# Altium footprint library ADS7038IRTER.PcbLib: 3 footprints
Each footprint in its own frame and in the unit in brackets; x right, y up, seen from the top. Pads: shape width x height; smd on the part's side, far side on the other; paste and mask are expansions set on the pad; w line width, h text height; cw(c..) or ccw(c..) is an arc to the next point about the centre after c.
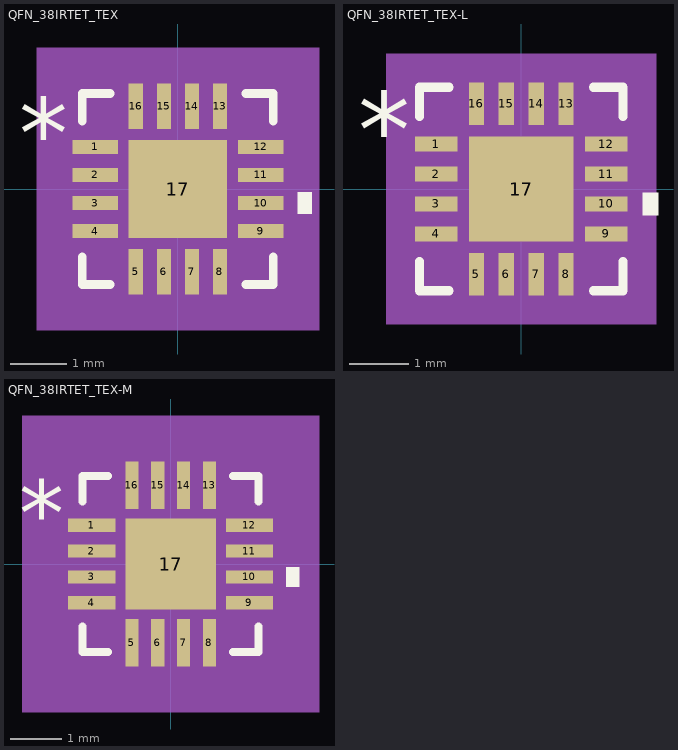
[diagram p0: the footprints below, top view; thin cyan lines are the x and y axes]

## QFN_38IRTET_TEX [mil]
pads (17):
  rect 32x10 smd paste+0 mask+0: 1(-58,29.54) 2(-58,9.85) 3(-58,-9.85) 4(-58,-29.54) 9(58,-29.54) 10(58,-9.85) 11(58,9.85) 12(58,29.54)
  rect 10x32 smd paste+0 mask+0: 5(-29.54,-58) 6(-9.85,-58) 7(9.85,-58) 8(29.54,-58) 13(29.54,58) 14(9.85,58) 15(-9.85,58) 16(-29.54,58)
  rect 69x69 smd paste+0 mask+0: 17(0,0)
Top Overlay:
  region: 84,-2.35 94,-2.35 94,-17.34 84,-17.34
  lines w6: -67,-47.63 -67,-67 -47.63,-67 ; -67,47.63 -67,67 -47.63,67 ; 47.63,-67 67,-67 67,-47.63 ; 47.63,67 67,67 67,47.63
  text "*" at -111.5,14.38 h50
Mechanical 5:
  region: 99,-99 -99,-99 -99,99 99,99
Mechanical 13:
  lines w1: -62,12 -12,62 ; -62,-62 -62,62 62,62 62,-62 -62,-62 ; -62,-35.53 -62,-23.54 -62,-35.53 ; -62,-15.85 -62,-3.85 -62,-15.85 ; -62,3.85 -62,15.85 -62,3.85 ; -62,23.54 -62,35.53 -62,23.54 ; -35.53,-62 -23.54,-62 -35.53,-62 ; -35.53,62 -23.54,62 -35.53,62 ; -15.85,-62 -3.85,-62 -15.85,-62 ; -15.85,62 -3.85,62 -15.85,62 ; 3.85,-62 15.85,-62 3.85,-62 ; 3.85,62 15.85,62 3.85,62 ; 23.54,-62 35.53,-62 23.54,-62 ; 23.54,62 35.53,62 23.54,62 ; 62,-35.53 62,-23.54 62,-35.53 ; 62,-15.85 62,-3.85 62,-15.85 ; 62,3.85 62,15.85 62,3.85 ; 62,23.54 62,35.53 62,23.54
  text "*" at -54.5,14.38 h50
Mechanical 15:
  region: -44.53,-72 -72,-72 -72,-44.53 -84,-44.53 -84,44.53 -72,44.53 -72,72 -44.53,72 -44.53,84 44.53,84 44.53,72 72,72 72,44.53 84,44.53 84,-44.53 72,-44.53 72,-72 44.53,-72 44.53,-84 -44.53,-84
  lines w6: -84,-44.53 -84,44.53 -72,44.53 -72,72 -44.53,72 -44.53,84 44.53,84 44.53,72 72,72 72,44.53 84,44.53 84,-44.53 72,-44.53 72,-72 44.53,-72 44.53,-84 -44.53,-84 -44.53,-72 -72,-72 -72,-44.53 -84,-44.53
3D body "QFN_38IRTET_TEX.step": height 32.09, standoff 0, extent -62.01,-62.01 62.01,62.01

## QFN_38IRTET_TEX-L [mil]
pads (17):
  rect 28x10 smd paste+0 mask+0: 1(-56,29.54) 2(-56,9.85) 3(-56,-9.85) 4(-56,-29.54) 9(56,-29.54) 10(56,-9.85) 11(56,9.85) 12(56,29.54)
  rect 10x28 smd paste+0 mask+0: 5(-29.54,-56) 6(-9.85,-56) 7(9.85,-56) 8(29.54,-56) 13(29.54,56) 14(9.85,56) 15(-9.85,56) 16(-29.54,56)
  rect 69x69 smd paste+0 mask+0: 17(0,0)
Top Overlay:
  region: 80,-2.35 90,-2.35 90,-17.34 80,-17.34
  lines w6: -67,-47.63 -67,-67 -47.63,-67 ; -67,47.63 -67,67 -47.63,67 ; 47.63,-67 67,-67 67,-47.63 ; 47.63,67 67,67 67,47.63
  text "*" at -107.5,14.38 h50
Mechanical 5:
  region: 89,-89 -89,-89 -89,89 89,89
Mechanical 13:
  lines w1: -62,12 -12,62 ; -62,-62 62,-62 62,62 -62,62 -62,-62 ; -62,-35.53 -62,-23.54 -62,-35.53 ; -62,-15.85 -62,-3.85 -62,-15.85 ; -62,3.85 -62,15.85 -62,3.85 ; -62,23.54 -62,35.53 -62,23.54 ; -35.53,-62 -23.54,-62 -35.53,-62 ; -35.53,62 -23.54,62 -35.53,62 ; -15.85,-62 -3.85,-62 -15.85,-62 ; -15.85,62 -3.85,62 -15.85,62 ; 3.85,-62 15.85,-62 3.85,-62 ; 3.85,62 15.85,62 3.85,62 ; 23.54,-62 35.53,-62 23.54,-62 ; 23.54,62 35.53,62 23.54,62 ; 62,-35.53 62,-23.54 62,-35.53 ; 62,-15.85 62,-3.85 62,-15.85 ; 62,3.85 62,15.85 62,3.85 ; 62,23.54 62,35.53 62,23.54
  text "*" at -54.5,14.38 h50
Mechanical 15:
  region: -38.53,-66 -66,-66 -66,-38.53 -74,-38.53 -74,38.53 -66,38.53 -66,66 -38.53,66 -38.53,74 38.53,74 38.53,66 66,66 66,38.53 74,38.53 74,-38.53 66,-38.53 66,-66 38.53,-66 38.53,-74 -38.53,-74
  lines w6: -74,-38.53 -66,-38.53 -66,-66 -38.53,-66 -38.53,-74 38.53,-74 38.53,-66 66,-66 66,-38.53 74,-38.53 74,38.53 66,38.53 66,66 38.53,66 38.53,74 -38.53,74 -38.53,66 -66,66 -66,38.53 -74,38.53 -74,-38.53
3D body "QFN_38IRTET_TEX.step": height 32.09, standoff 0, extent -62.01,-62.01 62.01,62.01

## QFN_38IRTET_TEX-M [mil]
pads (17):
  rect 36x10 smd paste+0 mask+0: 1(-60,29.54) 2(-60,9.85) 3(-60,-9.85) 4(-60,-29.54) 9(60,-29.54) 10(60,-9.85) 11(60,9.85) 12(60,29.54)
  rect 10x36 smd paste+0 mask+0: 5(-29.54,-60) 6(-9.85,-60) 7(9.85,-60) 8(29.54,-60) 13(29.54,60) 14(9.85,60) 15(-9.85,60) 16(-29.54,60)
  rect 69x69 smd paste+0 mask+0: 17(0,0)
Top Overlay:
  region: 88,-2.35 98,-2.35 98,-17.34 88,-17.34
  lines w6: -67,-47.63 -67,-67 -47.63,-67 ; -67,47.63 -67,67 -47.63,67 ; 47.63,-67 67,-67 67,-47.63 ; 47.63,67 67,67 67,47.63
  text "*" at -115.5,14.38 h50
Mechanical 5:
  region: 113,-113 -113,-113 -113,113 113,113
Mechanical 13:
  lines w1: -62,12 -12,62 ; -62,-62 -62,62 62,62 62,-62 -62,-62 ; -62,-35.53 -62,-23.54 -62,-35.53 ; -62,-15.85 -62,-3.85 -62,-15.85 ; -62,3.85 -62,15.85 -62,3.85 ; -62,23.54 -62,35.53 -62,23.54 ; -35.53,-62 -23.54,-62 -35.53,-62 ; -35.53,62 -23.54,62 -35.53,62 ; -15.85,-62 -3.85,-62 -15.85,-62 ; -15.85,62 -3.85,62 -15.85,62 ; 3.85,-62 15.85,-62 3.85,-62 ; 3.85,62 15.85,62 3.85,62 ; 23.54,-62 35.53,-62 23.54,-62 ; 23.54,62 35.53,62 23.54,62 ; 62,-35.53 62,-23.54 62,-35.53 ; 62,-15.85 62,-3.85 62,-15.85 ; 62,3.85 62,15.85 62,3.85 ; 62,23.54 62,35.53 62,23.54
  text "*" at -54.5,14.38 h50
Mechanical 15:
  region: -54.53,-82 -82,-82 -82,-54.53 -98,-54.53 -98,54.53 -82,54.53 -82,82 -54.53,82 -54.53,98 54.53,98 54.53,82 82,82 82,54.53 98,54.53 98,-54.53 82,-54.53 82,-82 54.53,-82 54.53,-98 -54.53,-98
  lines w6: -98,-54.53 -98,54.53 -82,54.53 -82,82 -54.53,82 -54.53,98 54.53,98 54.53,82 82,82 82,54.53 98,54.53 98,-54.53 82,-54.53 82,-82 54.53,-82 54.53,-98 -54.53,-98 -54.53,-82 -82,-82 -82,-54.53 -98,-54.53
3D body "QFN_38IRTET_TEX.step": height 32.09, standoff 0, extent -62.01,-62.01 62.01,62.01